# Altium schematic symbol library 芯片.SchLib: 3 symbols
Pins are listed as number, name and electrical type; pins without a type are passive.

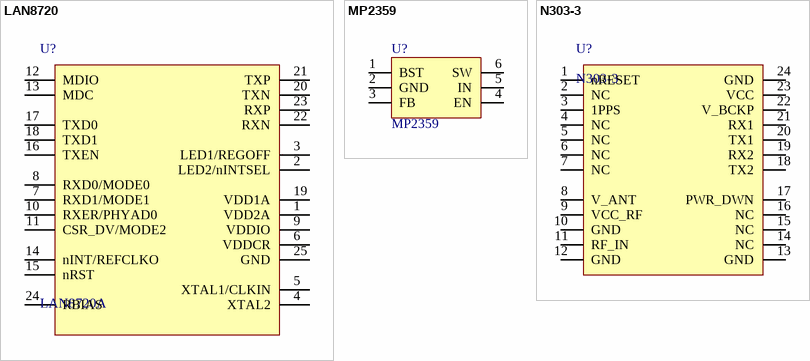
[diagram p0: symbols LAN8720 to N303-3]

## LAN8720
designator U?, comment LAN8720A
ETH PHY
footprint QFN24-LAN8720A
pins: 1 VDD2A, 2 LED2/nINTSEL, 3 LED1/REGOFF, 4 XTAL2, 5 XTAL1/CLKIN, 6 VDDCR, 7 RXD1/MODE1, 8 RXD0/MODE0, 9 VDDIO, 10 RXER/PHYAD0, 11 CSR_DV/MODE2, 12 MDIO, 13 MDC, 14 nINT/REFCLKO, 15 nRST, 16 TXEN, 17 TXD0, 18 TXD1, 19 VDD1A, 20 TXN, 21 TXP, 22 RXN, 23 RXP, 24 RBIAS, 25 GND

## MP2359
designator U?
DC-DC 降压
footprint SOT23-6
pins: 1 BST, 2 GND, 3 FB, 4 EN, 5 IN, 6 SW

## N303-3
designator U?
GPS模块; 单位: 个; 名称: 模块; 封装: 贴片
footprint N303-3
pins: 1 nRESET, 2 NC, 3 1PPS, 4 NC, 5 NC, 6 NC, 7 NC, 8 V_ANT, 9 VCC_RF, 10 GND, 11 RF_IN, 12 GND, 13 GND, 14 NC, 15 NC, 16 NC, 17 PWR_DWN, 18 TX2, 19 RX2, 20 TX1, 21 RX1, 22 V_BCKP, 23 VCC, 24 GND